# Altium integrated library Altium_WS-TASV (rev22a).IntLib: 87 symbols (part 2 of 2)
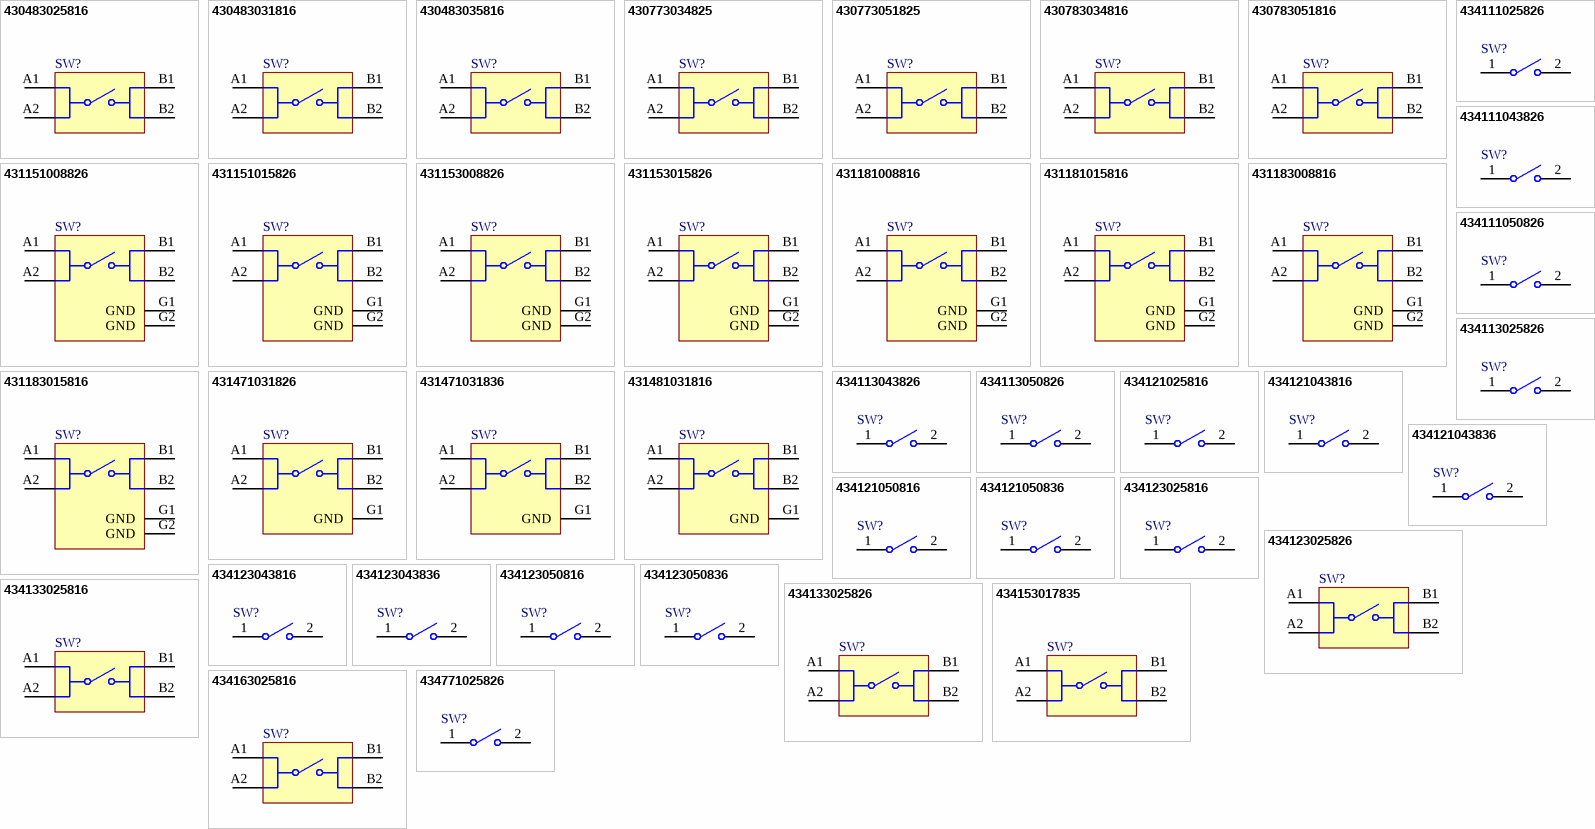
[diagram p3: symbols 430483025816 to 434771025826]

## 434111025826
designator SW?
WS-TASV SMT Tact Switch, 12VDC, 50mA, 260g, height 2.5mm; Manufacturer Part Number: 434111025826; Manufacturer: Wurth Elektronik; Rated Voltage: 12V; Washable: No; Actuator Color: White; Electrical Life: 30000Cycles; ComponentLink1Description: Manufacturer Link; ComponentLink1URL: http://www.we-online.de; ComponentLink2Description: Datasheet; ComponentLink2URL: https://www.we-online.com/catalog/datasheet/434111025826.pdf; Contact Material: Stainless Steel; Mounting Technology: SMT; Contact Plating: Silver; Operation Force: 260g; Packaging: Tape and Reel; Terminal Material: Copper Alloy; Rated Current: 50mA; Terminal Plating: Silver; Height: 2.5mm; Length: 6mm; Operating Temperature max.: 85C; Operating Temperature min.: -40C; Width: 3.8mm
footprint WS-TASV_L6W3.8H2.5_4341x10258x6
pins: 1, 2

## 434111043826
designator SW?
WS-TASV SMT Tact Switch, 12VDC, 50mA, 260g, height 4.3mm; Manufacturer Part Number: 434111043826; Manufacturer: Wurth Elektronik; Rated Voltage: 12V; Washable: No; Actuator Color: White; Electrical Life: 30000Cycles; ComponentLink1Description: Manufacturer Link; ComponentLink1URL: http://www.we-online.de; ComponentLink2Description: Datasheet; ComponentLink2URL: https://www.we-online.com/catalog/datasheet/434111043826.pdf; Contact Material: Stainless Steel; Mounting Technology: SMT; Contact Plating: Silver; Operation Force: 260g; Packaging: Tape and Reel; Terminal Material: Copper Alloy; Rated Current: 50mA; Terminal Plating: Silver; Height: 4.3mm; Length: 6mm; Operating Temperature max.: 85C; Operating Temperature min.: -40C; Width: 3.5mm
footprint WS-TASV_L6W3.5H4.3_4341x10438x6
pins: 1, 2

## 434111050826
designator SW?
WS-TASV SMT Tact Switch, 12VDC, 50mA, 260g, height 5mm; Manufacturer Part Number: 434111050826; Manufacturer: Wurth Elektronik; Rated Voltage: 12V; Washable: No; Actuator Color: White; Electrical Life: 30000Cycles; ComponentLink1Description: Manufacturer Link; ComponentLink1URL: http://www.we-online.de; ComponentLink2Description: Datasheet; ComponentLink2URL: https://www.we-online.com/catalog/datasheet/434111050826.pdf; Contact Material: Stainless Steel; Mounting Technology: SMT; Contact Plating: Silver; Operation Force: 260g; Packaging: Tape and Reel; Terminal Material: Copper Alloy; Rated Current: 50mA; Terminal Plating: Silver; Height: 5mm; Length: 6mm; Operating Temperature max.: 85C; Operating Temperature min.: -40C; Width: 3.5mm
footprint WS-TASV_L6W3.5H5_4341x10508x6
pins: 1, 2

## 434113025826
designator SW?
WS-TASV J-Bend SMT Tact Switch, 12VDC, 50mA, 260g, height 2.5mm; Manufacturer Part Number: 434113025826; Manufacturer: Wurth Elektronik; Rated Voltage: 12V; Washable: No; Actuator Color: White; Electrical Life: 30000Cycles; ComponentLink1Description: Manufacturer Link; ComponentLink1URL: http://www.we-online.de; ComponentLink2Description: Datasheet; ComponentLink2URL: https://www.we-online.com/catalog/datasheet/434113025826.pdf; Contact Material: Stainless Steel; Mounting Technology: SMT; Contact Plating: Silver; Operation Force: 260g; Packaging: Tape and Reel; Terminal Material: Copper Alloy; Rated Current: 50mA; Terminal Plating: Silver; Height: 2.5mm; Length: 6mm; Operating Temperature max.: 85C; Operating Temperature min.: -40C; Width: 3.8mm
footprint WS-TASV_L6W3.8H2.5_4341x30258x6
pins: 1, 2

## 434113043826
designator SW?
WS-TASV J-Bend SMT Tact Switch, 12VDC, 50mA, 260g, height 4.3mm; Manufacturer Part Number: 434113043826; Manufacturer: Wurth Elektronik; Rated Voltage: 12V; Washable: No; Actuator Color: White; Electrical Life: 30000Cycles; ComponentLink1Description: Manufacturer Link; ComponentLink1URL: http://www.we-online.de; ComponentLink2Description: Datasheet; ComponentLink2URL: https://www.we-online.com/catalog/datasheet/434113043826.pdf; Contact Material: Stainless Steel; Mounting Technology: SMT; Contact Plating: Silver; Operation Force: 260g; Packaging: Tape and Reel; Terminal Material: Copper Alloy; Rated Current: 50mA; Terminal Plating: Silver; Height: 4.3mm; Length: 6mm; Operating Temperature max.: 85C; Operating Temperature min.: -40C; Width: 3.5mm
footprint WS-TASV_L6W3.5H4.3_4341x30438x6
pins: 1, 2

## 434113050826
designator SW?
WS-TASV J-Bend SMT Tact Switch, 12VDC, 50mA, 260g, height 5mm; Manufacturer Part Number: 434113050826; Manufacturer: Wurth Elektronik; Rated Voltage: 12V; Washable: No; Actuator Color: White; Electrical Life: 30000Cycles; ComponentLink1Description: Manufacturer Link; ComponentLink1URL: http://www.we-online.de; ComponentLink2Description: Datasheet; ComponentLink2URL: https://www.we-online.com/catalog/datasheet/434113050826.pdf; Contact Material: Stainless Steel; Mounting Technology: SMT; Contact Plating: Silver; Operation Force: 260g; Packaging: Tape and Reel; Terminal Material: Copper Alloy; Rated Current: 50mA; Terminal Plating: Silver; Height: 5mm; Length: 6mm; Operating Temperature max.: 85C; Operating Temperature min.: -40C; Width: 3.5mm
footprint WS-TASV_L6W3.5H5_4341x30508x6
pins: 1, 2

## 434121025816
designator SW?
WS-TASV SMT Tact Switch, 12VDC, 50mA, 160g, height 2.5mm; Manufacturer Part Number: 434121025816; Manufacturer: Wurth Elektronik; Rated Voltage: 12V; Washable: No; Actuator Color: Black; Electrical Life: 30000Cycles; ComponentLink1Description: Manufacturer Link; ComponentLink1URL: http://www.we-online.de; ComponentLink2Description: Datasheet; ComponentLink2URL: https://www.we-online.com/catalog/datasheet/434121025816.pdf; Contact Material: Stainless Steel; Mounting Technology: SMT; Contact Plating: Silver; Operation Force: 160g; Packaging: Tape and Reel; Terminal Material: Copper Alloy; Rated Current: 50mA; Terminal Plating: Silver; Height: 2.5mm; Length: 6mm; Operating Temperature max.: 85C; Operating Temperature min.: -40C; Width: 3.8mm
footprint WS-TASV_L6W3.8H2.5_4341x10258x6
pins: 1, 2

## 434121043816
designator SW?
WS-TASV SMT Tact Switch, 12VDC, 50mA, 160g, height 4.3mm; Manufacturer Part Number: 434121043816; Manufacturer: Wurth Elektronik; Rated Voltage: 12V; Washable: No; Actuator Color: Black; Electrical Life: 50000Cycles; ComponentLink1Description: Manufacturer Link; ComponentLink1URL: http://www.we-online.de; ComponentLink2Description: Datasheet; ComponentLink2URL: https://www.we-online.com/catalog/datasheet/434121043816.pdf; Contact Material: Stainless Steel; Mounting Technology: SMT; Contact Plating: Silver; Operation Force: 160g; Packaging: Tape and Reel; Terminal Material: Copper Alloy; Rated Current: 50mA; Terminal Plating: Silver; Height: 4.3mm; Length: 6mm; Operating Temperature max.: 85C; Operating Temperature min.: -40C; Width: 3.5mm
footprint WS-TASV_L6W3.5H4.3_4341x10438x6
pins: 1, 2

## 434121043836
designator SW?
WS-TASV SMT Tact Switch, 12VDC, 50mA, 360g, height 4.3mm; Manufacturer Part Number: 434121043836; Manufacturer: Wurth Elektronik; Rated Voltage: 12V; Washable: No; Actuator Color: Salmon; Electrical Life: 50000Cycles; ComponentLink1Description: Manufacturer Link; ComponentLink1URL: http://www.we-online.de; ComponentLink2Description: Datasheet; ComponentLink2URL: https://www.we-online.com/catalog/datasheet/434121043836.pdf; Contact Material: Stainless Steel; Mounting Technology: SMT; Contact Plating: Silver; Operation Force: 360g; Packaging: Tape and Reel; Terminal Material: Copper Alloy; Rated Current: 50mA; Terminal Plating: Silver; Height: 4.3mm; Length: 6mm; Operating Temperature max.: 85C; Operating Temperature min.: -40C; Width: 3.5mm
footprint WS-TASV_L6W3.5H4.3_4341x10438x6
pins: 1, 2

## 434121050816
designator SW?
WS-TASV SMT Tact Switch, 12VDC, 50mA, 160g, height 5mm; Manufacturer Part Number: 434121050816; Manufacturer: Wurth Elektronik; Rated Voltage: 12V; Washable: No; Actuator Color: Black; Electrical Life: 50000Cycles; ComponentLink1Description: Manufacturer Link; ComponentLink1URL: http://www.we-online.de; ComponentLink2Description: Datasheet; ComponentLink2URL: https://www.we-online.com/catalog/datasheet/434121050816.pdf; Contact Material: Stainless Steel; Mounting Technology: SMT; Contact Plating: Silver; Operation Force: 160g; Packaging: Tape and Reel; Terminal Material: Copper Alloy; Rated Current: 50mA; Terminal Plating: Silver; Height: 5mm; Length: 6mm; Operating Temperature max.: 85C; Operating Temperature min.: -40C; Width: 3.5mm
footprint WS-TASV_L6W3.5H5_4341x10508x6
pins: 1, 2

## 434121050836
designator SW?
WS-TASV SMT Tact Switch, 12VDC, 50mA, 360g, height 5mm; Manufacturer Part Number: 434121050836; Manufacturer: Wurth Elektronik; Rated Voltage: 12V; Washable: No; Actuator Color: Salmon; Electrical Life: 50000Cycles; ComponentLink1Description: Manufacturer Link; ComponentLink1URL: http://www.we-online.de; ComponentLink2Description: Datasheet; ComponentLink2URL: https://www.we-online.com/catalog/datasheet/434121050836.pdf; Contact Material: Stainless Steel; Mounting Technology: SMT; Contact Plating: Silver; Operation Force: 360g; Packaging: Tape and Reel; Terminal Material: Copper Alloy; Rated Current: 50mA; Terminal Plating: Silver; Height: 5mm; Length: 6mm; Operating Temperature max.: 85C; Operating Temperature min.: -40C; Width: 3.5mm
footprint WS-TASV_L6W3.5H5_4341x10508x6
pins: 1, 2

## 434123025816
designator SW?
WS-TASV J-Bend SMT Tact Switch, 12VDC, 50mA, 160g, height 2.5mm; Manufacturer Part Number: 434123025816; Manufacturer: Wurth Elektronik; Rated Voltage: 12V; Washable: No; Actuator Color: Black; Electrical Life: 50000Cycles; ComponentLink1Description: Manufacturer Link; ComponentLink1URL: http://www.we-online.de; ComponentLink2Description: Datasheet; ComponentLink2URL: https://www.we-online.com/catalog/datasheet/434123025816.pdf; Contact Material: Stainless Steel; Mounting Technology: SMT; Contact Plating: Silver; Operation Force: 160g; Packaging: Tape and Reel; Terminal Material: Copper Alloy; Rated Current: 50mA; Terminal Plating: Silver; Height: 2.5mm; Length: 6mm; Operating Temperature max.: 85C; Operating Temperature min.: -40C; Width: 3.8mm
footprint WS-TASV_L6W3.8H2.5_4341x30258x6
pins: 1, 2

## 434123025826
designator SW?
WS-TASV J-Bend SMT Tact Switch, 16VDC, 50mA, 260g, height 2.5mm; Manufacturer Part Number: 434123025826; Manufacturer: Wurth Elektronik; Rated Voltage: 16V; Washable: No; Actuator Color: White; Electrical Life: 50000Cycles; ComponentLink1Description: Manufacturer Link; ComponentLink1URL: http://www.we-online.de; ComponentLink2Description: Datasheet; ComponentLink2URL: https://www.we-online.com/catalog/datasheet/434123025826.pdf; Contact Material: Stainless Steel; Mounting Technology: SMT; Contact Plating: Silver; Operation Force: 260g; Packaging: Tape and Reel; Terminal Material: Copper Alloy; Rated Current: 50mA; Terminal Plating: Silver; Height: 2.5mm; Length: 4.2mm; Operating Temperature max.: 85C; Operating Temperature min.: -40C; Width: 3.2mm
footprint WS-TASV_L4.2W3.2H2.5_4341x30258x6
pins: A1, A2, B1, B2

## 434123043816
designator SW?
WS-TASV J-Bend SMT Tact Switch, 12VDC, 50mA, 160g, height 4.3mm; Manufacturer Part Number: 434123043816; Manufacturer: Wurth Elektronik; Rated Voltage: 12V; Washable: No; Actuator Color: Black; Electrical Life: 50000Cycles; ComponentLink1Description: Manufacturer Link; ComponentLink1URL: http://www.we-online.de; ComponentLink2Description: Datasheet; ComponentLink2URL: https://www.we-online.com/catalog/datasheet/434123043816.pdf; Contact Material: Stainless Steel; Mounting Technology: SMT; Contact Plating: Silver; Operation Force: 160g; Packaging: Tape and Reel; Terminal Material: Copper Alloy; Rated Current: 50mA; Terminal Plating: Silver; Height: 4.3mm; Length: 6mm; Operating Temperature max.: 85C; Operating Temperature min.: -40C; Width: 3.5mm
footprint WS-TASV_L6W3.5H4.3_4341x30438x6
pins: 1, 2

## 434123043836
designator SW?
WS-TASV J-Bend SMT Tact Switch, 12VDC, 50mA, 360g, height 4.3mm; Manufacturer Part Number: 434123043836; Manufacturer: Wurth Elektronik; Rated Voltage: 12V; Washable: No; Actuator Color: Salmon; Electrical Life: 50000Cycles; ComponentLink1Description: Manufacturer Link; ComponentLink1URL: http://www.we-online.de; ComponentLink2Description: Datasheet; ComponentLink2URL: https://www.we-online.com/catalog/datasheet/434123043836.pdf; Contact Material: Stainless Steel; Mounting Technology: SMT; Contact Plating: Silver; Operation Force: 360g; Packaging: Tape and Reel; Terminal Material: Copper Alloy; Rated Current: 50mA; Terminal Plating: Silver; Height: 4.3mm; Length: 6mm; Operating Temperature max.: 85C; Operating Temperature min.: -40C; Width: 3.5mm
footprint WS-TASV_L6W3.5H4.3_4341x30438x6
pins: 1, 2

## 434123050816
designator SW?
WS-TASV J-Bend SMT Tact Switch, 12VDC, 50mA, 160g, height 5mm; Manufacturer Part Number: 434123050816; Manufacturer: Wurth Elektronik; Rated Voltage: 12V; Washable: No; Actuator Color: Black; Electrical Life: 50000Cycles; ComponentLink1Description: Manufacturer Link; ComponentLink1URL: http://www.we-online.de; ComponentLink2Description: Datasheet; ComponentLink2URL: https://www.we-online.com/catalog/datasheet/434123050816.pdf; Contact Material: Stainless Steel; Mounting Technology: SMT; Contact Plating: Silver; Operation Force: 160g; Packaging: Tape and Reel; Terminal Material: Copper Alloy; Rated Current: 50mA; Terminal Plating: Silver; Height: 5mm; Length: 6mm; Operating Temperature max.: 85C; Operating Temperature min.: -40C; Width: 3.5mm
footprint WS-TASV_L6W3.5H5_4341x30508x6
pins: 1, 2

## 434123050836
designator SW?
WS-TASV J-Bend SMT Tact Switch, 12VDC, 50mA, 360g, height 5mm; Manufacturer Part Number: 434123050836; Manufacturer: Wurth Elektronik; Rated Voltage: 12V; Washable: No; Actuator Color: Salmon; Electrical Life: 50000Cycles; ComponentLink1Description: Manufacturer Link; ComponentLink1URL: http://www.we-online.de; ComponentLink2Description: Datasheet; ComponentLink2URL: https://www.we-online.com/catalog/datasheet/434123050836.pdf; Contact Material: Stainless Steel; Mounting Technology: SMT; Contact Plating: Silver; Operation Force: 360g; Packaging: Tape and Reel; Terminal Material: Copper Alloy; Rated Current: 50mA; Terminal Plating: Silver; Height: 5mm; Length: 6mm; Operating Temperature max.: 85C; Operating Temperature min.: -40C; Width: 3.5mm
footprint WS-TASV_L6W3.5H5_4341x30508x6
pins: 1, 2

## 434133025816
designator SW?
WS-TASV J-Bend SMT Tact Switch, 16VDC, 50mA, 160g, height 2.5mm; Manufacturer Part Number: 434133025816; Manufacturer: Wurth Elektronik; Rated Voltage: 16V; Washable: No; Actuator Color: Black; Electrical Life: 100000Cycles; ComponentLink1Description: Manufacturer Link; ComponentLink1URL: http://www.we-online.de; ComponentLink2Description: Datasheet; ComponentLink2URL: https://www.we-online.com/catalog/datasheet/434133025816.pdf; Contact Material: Stainless Steel; Mounting Technology: SMT; Contact Plating: Silver; Operation Force: 160g; Packaging: Tape and Reel; Terminal Material: Copper Alloy; Rated Current: 50mA; Terminal Plating: Silver; Height: 2.5mm; Length: 4.2mm; Operating Temperature max.: 85C; Operating Temperature min.: -40C; Width: 3.2mm
footprint WS-TASV_L4.2W3.2H2.5_4341x30258x6
pins: A1, A2, B1, B2

## 434133025826
designator SW?
WS-TASV J-Bend SMT Tact Switch, 15VDC, 20mA, 260g, height 2.5mm; Manufacturer Part Number: 434133025826; Manufacturer: Wurth Elektronik; Rated Voltage: 15V; Washable: No; Actuator Color: Blue; Electrical Life: 100000Cycles; ComponentLink1Description: Manufacturer Link; ComponentLink1URL: http://www.we-online.de; ComponentLink2Description: Datasheet; ComponentLink2URL: https://www.we-online.com/catalog/datasheet/434133025826.pdf; Contact Material: Stainless Steel; Mounting Technology: SMT; Contact Plating: Silver; Operation Force: 260g; Packaging: Tape and Reel; Terminal Material: Copper Alloy; Rated Current: 20mA; Terminal Plating: Silver; Height: 2.5mm; Length: 4.7mm; Operating Temperature max.: 85C; Operating Temperature min.: -40C; Width: 3.5mm
footprint WS-TASV_L4.7W3.5H2.5_4341x30258x6
pins: A1, A2, B1, B2

## 434153017835
designator SW?
WS-TASV J-Bend SMT Tact Switch, 12VDC, 50mA, 350g, height 1.7mm; Manufacturer Part Number: 434153017835; Manufacturer: Wurth Elektronik; Rated Voltage: 12V; Washable: No; Actuator Color: Blue; Electrical Life: 200000Cycles; ComponentLink1Description: Manufacturer Link; ComponentLink1URL: http://www.we-online.de; ComponentLink2Description: Datasheet; ComponentLink2URL: https://www.we-online.com/catalog/datasheet/434153017835.pdf; Contact Material: Stainless Steel; Mounting Technology: SMT; Contact Plating: Silver; Operation Force: 350g; Packaging: Tape and Reel; Terminal Material: Copper Alloy; Rated Current: 50mA; Terminal Plating: Silver; Height: 1.7mm; Length: 3.5mm; Operating Temperature max.: 85C; Operating Temperature min.: -40C; Width: 2.9mm
footprint WS-TASV_L3.5W2.9H1.7_434153017835
pins: A1, A2, B1, B2

## 434163025816
designator SW?
WS-TASV J-Bend SMT Tact Switch, 15VDC, 20mA, 160g, height 2.5mm; Manufacturer Part Number: 434163025816; Manufacturer: Wurth Elektronik; Rated Voltage: 15V; Washable: No; Actuator Color: Black; Electrical Life: 300000Cycles; ComponentLink1Description: Manufacturer Link; ComponentLink1URL: http://www.we-online.de; ComponentLink2Description: Datasheet; ComponentLink2URL: https://www.we-online.com/catalog/datasheet/434163025816.pdf; Contact Material: Stainless Steel; Mounting Technology: SMT; Contact Plating: Silver; Operation Force: 160g; Packaging: Tape and Reel; Terminal Material: Copper Alloy; Rated Current: 20mA; Terminal Plating: Silver; Height: 2.5mm; Length: 4.7mm; Operating Temperature max.: 85C; Operating Temperature min.: -40C; Width: 3.5mm
footprint WS-TASV_L4.7W3.5H2.5_4341x30258x6
pins: A1, A2, B1, B2

## 434771025826
designator SW?
WS-TASV SMT IP67 Tact Switch, 12VDC, 50mA, 260g, height 2.5mm; Manufacturer Part Number: 434771025826; Manufacturer: Wurth Elektronik; Rated Voltage: 12V; Washable: Yes; Actuator Color: White; Electrical Life: 500000Cycles; ComponentLink1Description: Manufacturer Link; ComponentLink1URL: http://www.we-online.de; ComponentLink2Description: Datasheet; ComponentLink2URL: https://www.we-online.com/catalog/datasheet/434771025826.pdf; Contact Material: Stainless Steel; Mounting Technology: SMT; Contact Plating: Silver; Operation Force: 260g; Packaging: Tape and Reel; Terminal Material: Copper Alloy; Rated Current: 50mA; Terminal Plating: Silver; Height: 2.5mm; Length: 6.2mm; Operating Temperature max.: 85C; Operating Temperature min.: -40C; Width: 4.1mm
footprint WS-TASV_L6.2W4.1H2.5_4347x10258x6
pins: 1, 2

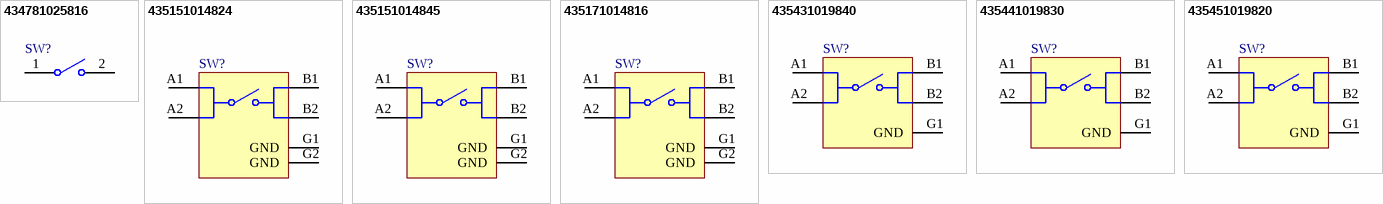
[diagram p2: symbols 434781025816 to 435451019820]

## 434781025816
designator SW?
WS-TASV SMT IP67 Tact Switch, 12VDC, 50mA, 160g, height 2.5mm; Manufacturer Part Number: 434781025816; Manufacturer: Wurth Elektronik; Rated Voltage: 12V; Washable: Yes; Actuator Color: Black; Electrical Life: 1000000Cycles; ComponentLink1Description: Manufacturer Link; ComponentLink1URL: http://www.we-online.de; ComponentLink2Description: Datasheet; ComponentLink2URL: https://www.we-online.com/catalog/datasheet/434781025816.pdf; Contact Material: Stainless Steel; Mounting Technology: SMT; Contact Plating: Silver; Operation Force: 160g; Packaging: Tape and Reel; Terminal Material: Copper Alloy; Rated Current: 50mA; Terminal Plating: Silver; Height: 2.5mm; Length: 6.2mm; Operating Temperature max.: 85C; Operating Temperature min.: -40C; Width: 4.1mm
footprint WS-TASV_L6.2W4.1H2.5_4347x10258x6
pins: 1, 2

## 435151014824
designator SW?
WS-TASV SMT Tact Switch with ground terminal, 12VDC, 50mA, 240g, height 1.4mm; Manufacturer Part Number: 435151014824; Manufacturer: Wurth Elektronik; Rated Voltage: 12V; Washable: No; Actuator Color: White; Electrical Life: 200000Cycles; ComponentLink1Description: Manufacturer Link; ComponentLink1URL: http://www.we-online.de; ComponentLink2Description: Datasheet; ComponentLink2URL: https://www.we-online.com/catalog/datasheet/435151014824.pdf; Contact Material: Stainless Steel; Mounting Technology: SMT; Contact Plating: Silver; Operation Force: 240g; Packaging: Tape and Reel; Terminal Material: Copper Alloy; Rated Current: 50mA; Terminal Plating: Silver; Height: 1.4mm; Length: 3mm; Operating Temperature max.: 85C; Operating Temperature min.: -40C; Width: 2.6mm
footprint WS-TASV_L3W2.6H1.4_4351x10148xx
pins: A1, A2, B1, B2, G1 GND, G2 GND

## 435151014845
designator SW?
WS-TASV SMT Tact Switch with ground terminal, 12VDC, 50mA, 450g, height 1.4mm; Manufacturer Part Number: 435151014845; Manufacturer: Wurth Elektronik; Rated Voltage: 12V; Washable: No; Actuator Color: Salmon; Electrical Life: 200000Cycles; ComponentLink1Description: Manufacturer Link; ComponentLink1URL: http://www.we-online.de; ComponentLink2Description: Datasheet; ComponentLink2URL: https://www.we-online.com/catalog/datasheet/435151014845.pdf; Contact Material: Stainless Steel; Mounting Technology: SMT; Contact Plating: Silver; Operation Force: 450g; Packaging: Tape and Reel; Terminal Material: Copper Alloy; Rated Current: 50mA; Terminal Plating: Silver; Height: 1.4mm; Length: 3mm; Operating Temperature max.: 85C; Operating Temperature min.: -40C; Width: 2.6mm
footprint WS-TASV_L3W2.6H1.4_4351x10148xx
pins: A1, A2, B1, B2, G1 GND, G2 GND

## 435171014816
designator SW?
WS-TASV SMT Tact Switch with ground terminal, 12VDC, 50mA, 160g, height 1.4mm; Manufacturer Part Number: 435171014816; Manufacturer: Wurth Elektronik; Rated Voltage: 12V; Washable: No; Actuator Color: Black; Electrical Life: 500000Cycles; ComponentLink1Description: Manufacturer Link; ComponentLink1URL: http://www.we-online.de; ComponentLink2Description: Datasheet; ComponentLink2URL: https://www.we-online.com/catalog/datasheet/435171014816.pdf; Contact Material: Stainless Steel; Mounting Technology: SMT; Contact Plating: Silver; Operation Force: 160g; Packaging: Tape and Reel; Terminal Material: Copper Alloy; Rated Current: 50mA; Terminal Plating: Silver; Height: 1.4mm; Length: 3mm; Operating Temperature max.: 85C; Operating Temperature min.: -40C; Width: 2.6mm
footprint WS-TASV_L3W2.6H1.4_4351x10148xx
pins: A1, A2, B1, B2, G1 GND, G2 GND

## 435431019840
designator SW?
WS-TASV SMT Washable Tact Switch, 32VDC, 50mA, 400g, height 1.9mm; Manufacturer Part Number: 435431019840; Manufacturer: Wurth Elektronik; Actuator Color: Salmon; Electrical Life: 100000Cycles; Rated Voltage: 32V; Washable: Yes; ComponentLink1Description: Manufacturer Link; ComponentLink1URL: http://www.we-online.de; ComponentLink2Description: Datasheet; ComponentLink2URL: https://www.we-online.com/catalog/datasheet/435431019840.pdf; Mounting Technology: SMT; Packaging: Tape and Reel; Contact Material: Stainless Steel; Contact Plating: Silver; Height: 1.9mm; Length: 4.1mm; Operating Temperature max.: 125C; Operating Temperature min.: -55C; Operation Force: 400g; Rated Current: 50mA; Terminal Material: Copper Alloy; Terminal Plating: Silver; Width: 2.8mm
footprint WS-TASV_L4.1W2.8H1.9_4354x10198x0
pins: A1, A2, B1, B2, G1 GND

## 435441019830
designator SW?
WS-TASV SMT Washable Tact Switch, 32VDC, 50mA, 300g, height 1.9mm; Manufacturer Part Number: 435441019830; Manufacturer: Wurth Elektronik; Actuator Color: White; Electrical Life: 100000Cycles; Rated Voltage: 32V; Washable: Yes; ComponentLink1Description: Manufacturer Link; ComponentLink1URL: http://www.we-online.de; ComponentLink2Description: Datasheet; ComponentLink2URL: https://www.we-online.com/catalog/datasheet/435441019830.pdf; Mounting Technology: SMT; Packaging: Tape and Reel; Contact Material: Stainless Steel; Contact Plating: Silver; Height: 1.9mm; Length: 4.1mm; Operating Temperature max.: 125C; Operating Temperature min.: -55C; Operation Force: 300g; Rated Current: 50mA; Terminal Material: Copper Alloy; Terminal Plating: Silver; Width: 2.8mm
footprint WS-TASV_L4.1W2.8H1.9_4354x10198x0
pins: A1, A2, B1, B2, G1 GND

## 435451019820
designator SW?
WS-TASV SMT Washable Tact Switch, 32VDC, 50mA, 200g, height 1.9mm; Manufacturer Part Number: 435451019820; Manufacturer: Wurth Elektronik; Actuator Color: Black; Electrical Life: 100000Cycles; Rated Voltage: 32V; Washable: Yes; ComponentLink1Description: Manufacturer Link; ComponentLink1URL: http://www.we-online.de; ComponentLink2Description: Datasheet; ComponentLink2URL: https://www.we-online.com/catalog/datasheet/435451019820.pdf; Mounting Technology: SMT; Packaging: Tape and Reel; Contact Material: Stainless Steel; Contact Plating: Silver; Height: 1.9mm; Length: 4.1mm; Operating Temperature max.: 125C; Operating Temperature min.: -55C; Operation Force: 200g; Rated Current: 50mA; Terminal Material: Copper Alloy; Terminal Plating: Silver; Width: 2.8mm
footprint WS-TASV_L4.1W2.8H1.9_4354x10198x0
pins: A1, A2, B1, B2, G1 GND